# EAGLE library part SN65LVDM176 (library NewSDR)
High Speed Differential Line Driver/Receiver
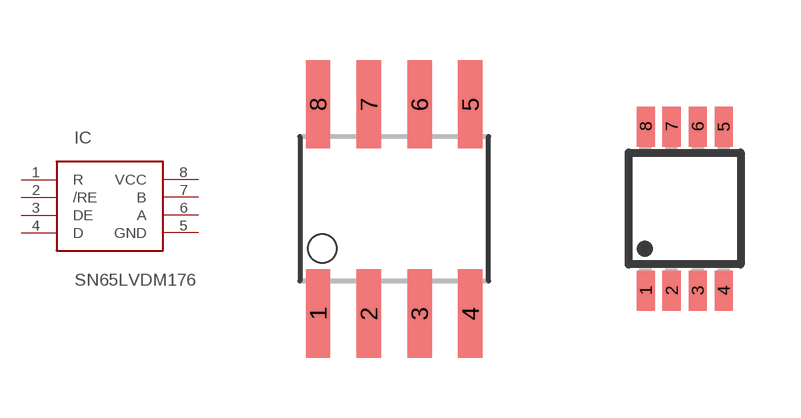
[diagram p18: symbol with the pads of SO8; footprints SO8, MSOP8]

Designator prefix IC

## SN65LVDM176D  [SO8]
1  R  out
2  /RE  in
3  DE  in
4  D  in
5  GND  pwr
6  A
7  B
8  VCC  pwr

## SN65LVDM176DGK  [MSOP8]
Pads as for SO8

## Footprint SO8 (pad centres in mm)
smd 0.61 x 2.21: 1 -1.905,-2.616; 2 -0.635,-2.616; 3 0.635,-2.616; 4 1.905,-2.616; 5 1.905,2.616; 6 0.635,2.616; 7 -0.635,2.616; 8 -1.905,2.616

## Footprint MSOP8 (pad centres in mm)
Micro Small Outline Package
smd 0.45 x 1: 1 -0.975,-2.05; 2 -0.325,-2.05; 3 0.325,-2.05; 4 0.975,-2.05; 5 0.975,2.05; 6 0.325,2.05; 7 -0.325,2.05; 8 -0.975,2.05